# Altium footprint library JMPKG.PcbLib: 337 footprints (part 19 of 22)
Each footprint in its own frame and in the unit in brackets; x right, y up, seen from the top. Pads: shape width x height; smd on the part's side, far side on the other; paste and mask are expansions set on the pad; w line width, h text height; cw(c..) or ccw(c..) is an arc to the next point about the centre after c.
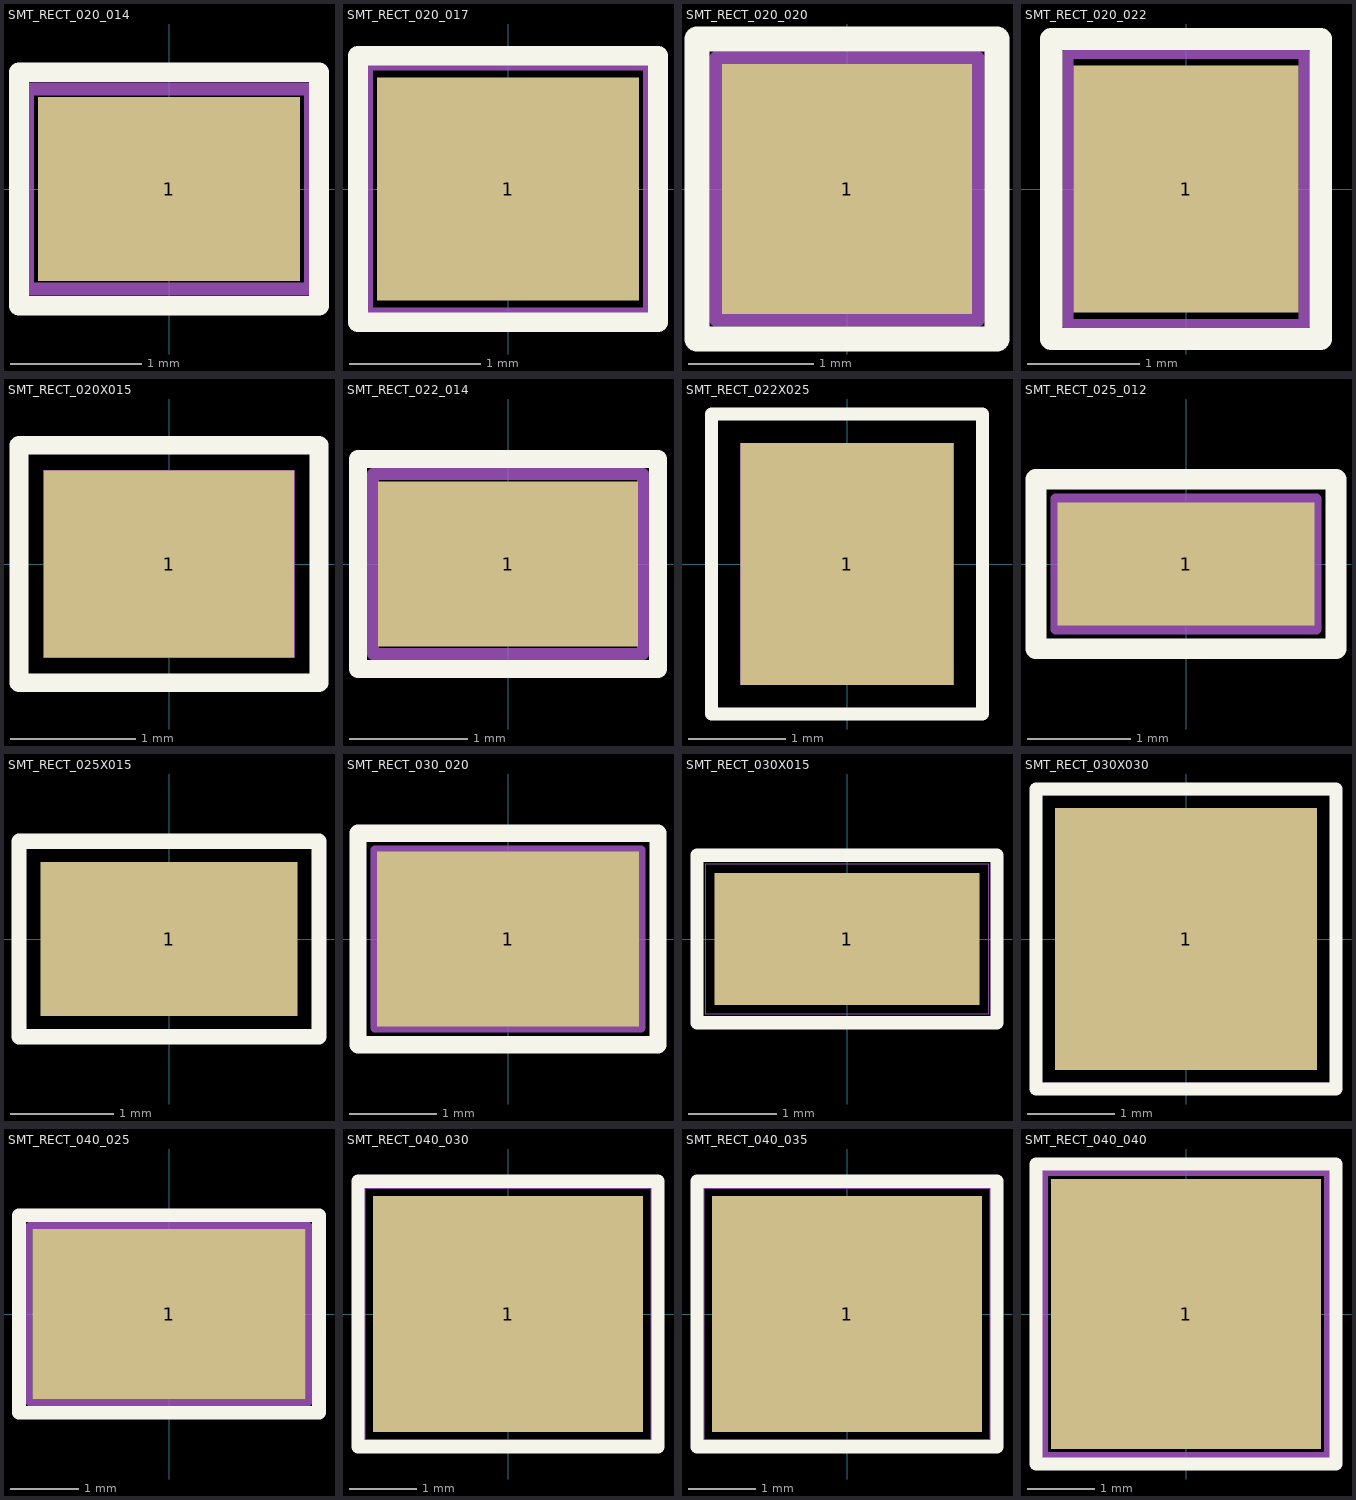
[diagram p18: the footprints below, top view; thin cyan lines are the x and y axes]

## SMT_RECT_020_014 [mm]
pads (1):
  rect 2x1.4 smd mask+0.05: 1(0,0)
Top Overlay:
  lines w0.15: -1.143,-0.889 1.143,-0.889 1.143,0.889 -1.143,0.889 -1.143,-0.889
Mechanical 15:
  lines w0.1: -1.079,-0.762 1.079,-0.762 1.079,0.762 -1.079,0.762 -1.079,-0.762
Multi-Layer:
  text "Value" at -0.925,-0.788 h0.6
Mechanical 20:
  lines w0.1: -1.143,-0.889 1.143,-0.889 1.143,0.889 -1.143,0.889 -1.143,-0.889

## SMT_RECT_020_017 [mm]
pads (1):
  rect 2x1.7 smd mask+0.05: 1(0,0)
Top Overlay:
  lines w0.15: -1.143,-1.016 1.143,-1.016 1.143,1.016 -1.143,1.016 -1.143,-1.016
Mechanical 15:
  lines w0.1: -1.079,-0.953 1.079,-0.953 1.079,0.953 -1.079,0.953 -1.079,-0.953
Multi-Layer:
  text "Value" at -0.925,-0.788 h0.6
Mechanical 20:
  lines w0.1: -1.143,-1.016 1.143,-1.016 1.143,1.016 -1.143,1.016 -1.143,-1.016

## SMT_RECT_020_020 [mm]
pads (1):
  rect 2x2 smd mask+0.05: 1(0,0)
Top Overlay:
  lines w0.2: -1.2,-1.2 1.2,-1.2 1.2,1.2 -1.2,1.2 -1.2,-1.2
Mechanical 15:
  lines w0.1: -1.05,-1.05 1.05,-1.05 1.05,1.05 -1.05,1.05 -1.05,-1.05
Multi-Layer:
  text "Value" at -1.172,-0.742 h0.75
Mechanical 20:
  lines w0.1: -1.2,-1.2 1.2,-1.2 1.2,1.2 -1.2,1.2 -1.2,-1.2

## SMT_RECT_020_022 [mm]
pads (1):
  rect 2x2.2 smd mask+0.05: 1(0,0)
Top Overlay:
  lines w0.2: -1.2,-1.333 1.2,-1.333 1.2,1.333 -1.2,1.333 -1.2,-1.333
Mechanical 15:
  lines w0.1: -1.05,-1.206 1.05,-1.206 1.05,1.206 -1.05,1.206 -1.05,-1.206
Multi-Layer:
  text "Value" at -1.172,-0.742 h0.75
Mechanical 20:
  lines w0.1: -1.2,-1.333 1.2,-1.333 1.2,1.333 -1.2,1.333 -1.2,-1.333

## SMT_RECT_020X015 [mm]
pads (1):
  rect 2x1.5 smd mask+0.05: 1(0,0)
Top Overlay:
  lines w0.15: -1.2,-0.95 1.2,-0.95 1.2,0.95 -1.2,0.95 -1.2,-0.95
Mechanical 15:
  lines w0.01: -1,-0.75 1,-0.75 1,0.75 -1,0.75 -1,-0.75
Mechanical 20:
  lines w0.01: -1.2,-0.95 1.2,-0.95 1.2,0.95 -1.2,0.95 -1.2,-0.95

## SMT_RECT_022_014 [mm]
pads (1):
  rect 2.2x1.4 smd mask+0.05: 1(0,0)
Top Overlay:
  lines w0.15: -1.27,-0.889 1.27,-0.889 1.27,0.889 -1.27,0.889 -1.27,-0.889
Mechanical 15:
  lines w0.1: -1.143,-0.762 1.143,-0.762 1.143,0.762 -1.143,0.762 -1.143,-0.762
Multi-Layer:
  text "Value" at -0.925,-0.788 h0.6
Mechanical 20:
  lines w0.1: -1.27,-0.889 1.27,-0.889 1.27,0.889 -1.27,0.889 -1.27,-0.889

## SMT_RECT_022X025 [mm]
pads (1):
  rect 2.2x2.5 smd mask+0.05: 1(0,0)
Top Overlay:
  lines w0.13: -1.4,-1.55 1.4,-1.55 1.4,1.55 -1.4,1.55 -1.4,-1.55
Mechanical 15:
  lines w0.01: -1.1,-1.25 1.1,-1.25 1.1,1.25 -1.1,1.25 -1.1,-1.25
Multi-Layer:
  text "Value" at -0.715,-0.693 h0.5
  text "Value" at -0.75,-0.553 h0.5
Mechanical 20:
  lines w0.01: -1.4,-1.55 1.4,-1.55 1.4,1.55 -1.4,1.55 -1.4,-1.55

## SMT_RECT_025_012 [mm]
pads (1):
  rect 2.5x1.2 smd paste-0.19 mask+0.05: 1(0,0)
Top Overlay:
  lines w0.2: -1.46,-0.826 1.46,-0.826 1.46,0.826 -1.46,0.826 -1.46,-0.826
Mechanical 15:
  lines w0.1: -1.27,-0.635 1.27,-0.635 1.27,0.635 -1.27,0.635 -1.27,-0.635
Multi-Layer:
  text "Value" at -1.045,-0.552 h0.75
Mechanical 20:
  lines w0.1: -1.46,-0.826 1.46,-0.826 1.46,0.826 -1.46,0.826 -1.46,-0.826

## SMT_RECT_025X015 [mm]
pads (1):
  rect 2.5x1.5 smd mask+0.05: 1(0,0)
Top Overlay:
  lines w0.15: -1.46,-0.953 1.46,-0.953 1.46,0.953 -1.46,0.953 -1.46,-0.953
Mechanical 15:
  lines w0.01: -1.397,-0.889 1.397,-0.889 1.397,0.889 -1.397,0.889 -1.397,-0.889
Multi-Layer:
  text "Value" at -0.753,-0.432 h0.6
  text "Value" at -0.988,-0.502 h0.6
Mechanical 20:
  lines w0.01: -1.46,-0.953 1.46,-0.953 1.46,0.953 -1.46,0.953 -1.46,-0.953

## SMT_RECT_030_020 [mm]
pads (1):
  rect 3x2 smd mask+0.05: 1(0,0)
Top Overlay:
  lines w0.2: -1.714,-1.206 1.714,-1.206 1.714,1.206 -1.714,1.206 -1.714,-1.206
Mechanical 15:
  lines w0.1: -1.524,-1.016 1.524,-1.016 1.524,1.016 -1.524,1.016 -1.524,-1.016
Multi-Layer:
  text "Value" at -1.172,-0.742 h0.75
Mechanical 20:
  lines w0.1: -1.714,-1.206 1.714,-1.206 1.714,1.206 -1.714,1.206 -1.714,-1.206

## SMT_RECT_030X015 [mm]
pads (1):
  rect 3x1.5 smd mask+0.05: 1(0,0)
Top Overlay:
  lines w0.15: -1.7,-0.95 1.7,-0.95 1.7,0.95 -1.7,0.95 -1.7,-0.95
Mechanical 15:
  lines w0.01: -1.6,-0.85 1.6,-0.85 1.6,0.85 -1.6,0.85 -1.6,-0.85
Multi-Layer:
  text "Value" at -0.753,-0.432 h0.6
Mechanical 20:
  lines w0.01: -1.7,-0.95 1.7,-0.95 1.7,0.95 -1.7,0.95 -1.7,-0.95

## SMT_RECT_030X030 [mm]
pads (1):
  rect 3x3 smd mask+0.05: 1(0,0)
Top Overlay:
  lines w0.15: -1.714,-1.714 1.714,-1.714 1.714,1.714 -1.714,1.714 -1.714,-1.714
Mechanical 15:
  lines w0.01: -1.651,-1.651 1.651,-1.651 1.651,1.651 -1.651,1.651 -1.651,-1.651
Mechanical 20:
  lines w0.01: -1.714,-1.714 1.714,-1.714 1.714,1.714 -1.714,1.714 -1.714,-1.714

## SMT_RECT_040_025 [mm]
pads (1):
  rect 4x2.5 smd mask+0.05: 1(0,0)
Top Overlay:
  lines w0.2: -2.2,-1.45 2.2,-1.45 2.2,1.45 -2.2,1.45 -2.2,-1.45
Mechanical 15:
  lines w0.1: -2.05,-1.3 2.05,-1.3 2.05,1.3 -2.05,1.3 -2.05,-1.3
Multi-Layer:
  text "Value" at -1.108,-1.25 h0.75
Mechanical 20:
  lines w0.1: -2.2,-1.45 2.2,-1.45 2.2,1.45 -2.2,1.45 -2.2,-1.45

## SMT_RECT_040_030 [mm]
pads (1):
  rect 4x3.5 smd mask+0.1: 1(0,0)
Top Overlay:
  lines w0.2: -2.222,-1.968 2.222,-1.968 2.222,1.968 -2.222,1.968 -2.222,-1.968
Mechanical 15:
  lines w0.1: -2.159,-1.905 2.159,-1.905 2.159,1.905 -2.159,1.905 -2.159,-1.905
Multi-Layer:
  text "Value" at -1.108,-1.25 h0.75

## SMT_RECT_040_035 [mm]
pads (1):
  rect 4x3.5 smd mask+0.1: 1(0,0)
Top Overlay:
  lines w0.2: -2.222,-1.968 2.222,-1.968 2.222,1.968 -2.222,1.968 -2.222,-1.968
Mechanical 15:
  lines w0.1: -2.159,-1.905 2.159,-1.905 2.159,1.905 -2.159,1.905 -2.159,-1.905
Multi-Layer:
  text "Value" at -1.108,-1.25 h0.75

## SMT_RECT_040_040 [mm]
pads (1):
  rect 4x4 smd mask+0.05: 1(0,0)
Top Overlay:
  lines w0.2: -2.222,-2.222 2.222,-2.222 2.222,2.222 -2.222,2.222 -2.222,-2.222
Mechanical 15:
  lines w0.1: -2.095,-2.095 2.095,-2.095 2.095,2.095 -2.095,2.095 -2.095,-2.095
Multi-Layer:
  text "Value" at -1.108,-1.25 h0.75
Mechanical 20:
  lines w0.1: -2.222,-2.222 2.222,-2.222 2.222,2.222 -2.222,2.222 -2.222,-2.222